# EAGLE library part TLP250 (library hotaru)
TLP250
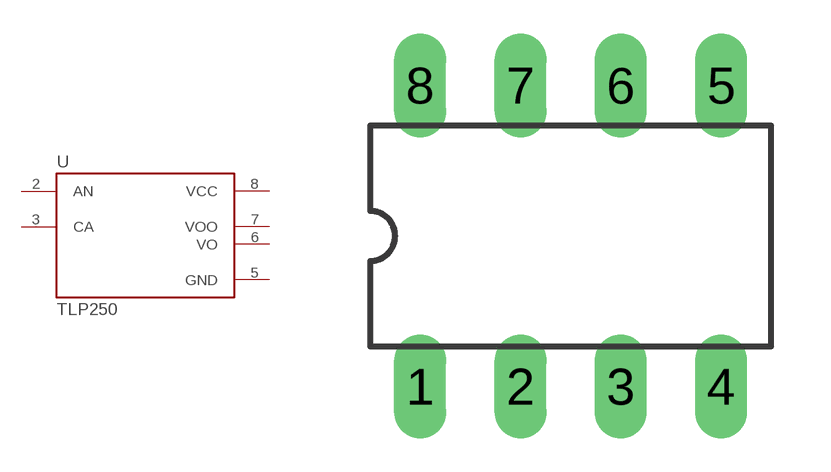
[diagram p3: symbol with the pads of DIL08; footprint DIL08]

Designator prefix -

## TLP250  [DIL08]
2  AN
3  CA
5  GND
6  VO
7  VOO
8  VCC

## Footprint DIL08 (pad centres in mm)
drill 0.813 long: 1 2.54,0; 2 5.08,0; 3 7.62,0; 4 10.16,0; 5 10.16,7.62; 6 7.62,7.62; 7 5.08,7.62; 8 2.54,7.62